# Altium schematic symbol library Schlib1.SchLib: 1 symbol
Pins are listed as number, name and electrical type; pins without a type are passive.

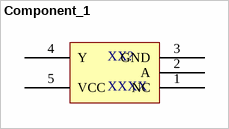
[diagram p0: symbol Component_1]

## Component_1
designator XX?, comment XXXX
pins: 1 NC, 2 A, 3 GND, 4 Y, 5 VCC